# EAGLE library part HDR-1X8 (library SIH26113_Maternity_Assist_Belt)
1x8 2.54 mm pin header
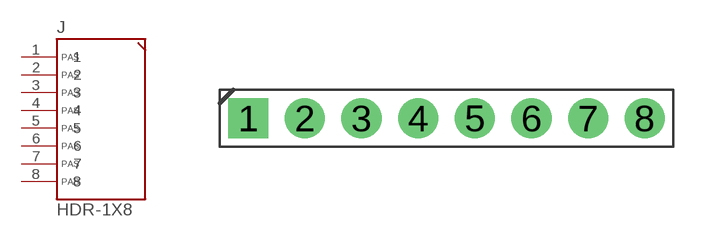
[diagram p8: symbol with the pads of HDR-1X8; footprint HDR-1X8]

Designator prefix J

## HDR-1X8  [HDR-1X8]
1  1  pas
2  2  pas
3  3  pas
4  4  pas
5  5  pas
6  6  pas
7  7  pas
8  8  pas

## Footprint HDR-1X8 (pad centres in mm)
1x8 2.54 mm through-hole pin header. Drill 1.0 mm / pad 1.8 mm suits the 0.64 mm square posts used by all common 2.54 mm headers. Pad 1 is square.
drill 1 pad 1.8 square: 1 -8.89,0
drill 1 pad 1.8: 2 -6.35,0; 3 -3.81,0; 4 -1.27,0; 5 1.27,0; 6 3.81,0; 7 6.35,0; 8 8.89,0